# Altium schematic symbol library TRANSPARENCY_TEST.SchLib: 1 symbol
Pins are listed as number, name and electrical type; pins without a type are passive.

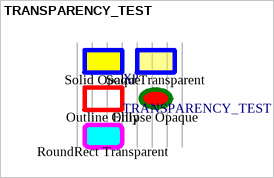
[diagram p0: symbol TRANSPARENCY_TEST]

## TRANSPARENCY_TEST
designator X?
Test solid vs transparent fills
text: Solid Opaque; Solid Transparent; Outline Only; Ellipse Opaque; RoundRect Transparent